# EAGLE library part 4X2PIN-2.54MM-F-HEADER (library Itead-misc)
CON010
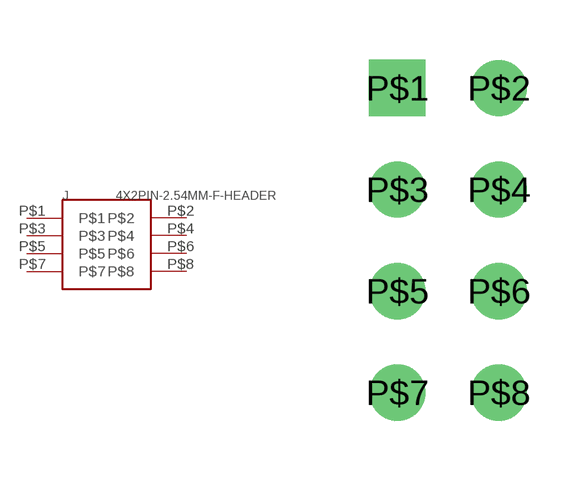
[diagram p10: symbol with the pads of 2X4-2.54MM; footprint 2X4-2.54MM]

Designator prefix J

## 4X2PIN-2.54MM-F-HEADER  [2X4-2.54MM]
P$1  P$1
P$2  P$2
P$3  P$3
P$4  P$4
P$5  P$5
P$6  P$6
P$7  P$7
P$8  P$8

## Footprint 2X4-2.54MM (pad centres in mm)
drill 0.9 square: P$1 0,0
drill 0.9 round: P$2 2.54,0; P$3 0,-2.54; P$4 2.54,-2.54; P$5 0,-5.08; P$6 2.54,-5.08; P$7 0,-7.62; P$8 2.54,-7.62